# Altium schematic symbol library 1uF.SchLib: 1 symbol
Pins are listed as number, name and electrical type; pins without a type are passive.

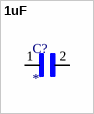
[diagram p0: symbol 1uF]

## 1uF
designator C?
SMD Capacitor X7R(EIA) with Capacitance: 1.0uF Tol. 10%. Rated Voltage: 25Vdc; MF: Murata; MP: GCM188R71E105KA64J; SnapEDA_Link: https://www.snapeda.com/parts/GCM188R71E105KA64J/Murata/view-part/4381740/?ref=snap; Purchase-URL: https://pricing.snapeda.com/search/part/GCM188R71E105KA64J/?ref=eda; Availability: Good; Price: None; Package: 1608 Murata; Check_prices: https://www.snapeda.com/parts/GCM188R71E105KA64J/Murata/view-part/4381740/?ref=eda; Value: *
footprint 1uF
pins: 1, 2